# Altium schematic symbol library BoardA.SchLib: 11 symbols
Pins are listed as number, name and electrical type; pins without a type are passive.

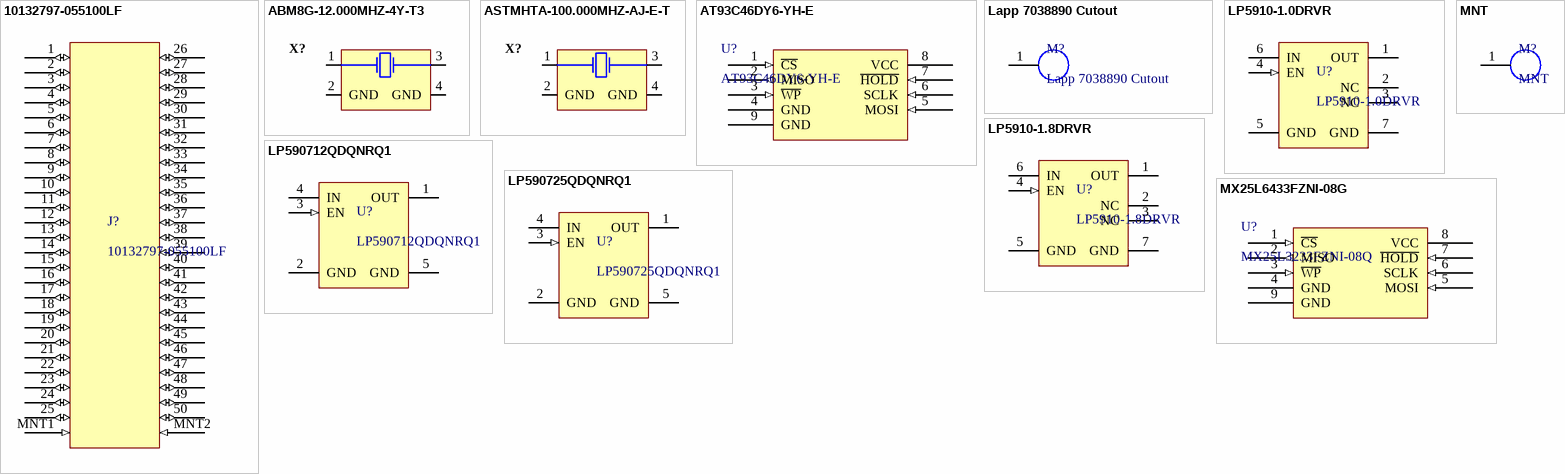
[diagram p0: symbols 10132797-055100LF to MX25L6433FZNI-08G]

## 10132797-055100LF
designator J?
footprint 10132797-055100LF
pins: 1 (io), 2 (io), 3 (io), 4 (io), 5 (io), 6 (io), 7 (io), 8 (io), 9 (io), 10 (io), 11 (io), 12 (io), 13 (io), 14 (io), 15 (io), 16 (io), 17 (io), 18 (io), 19 (io), 20 (io), 21 (io), 22 (io), 23 (io), 24 (io), 25 (io), 26 (io), 27 (io), 28 (io), 29 (io), 30 (io), 31 (io), 32 (io), 33 (io), 34 (io), 35 (io), 36 (io), 37 (io), 38 (io), 39 (io), 40 (io), 41 (io), 42 (io), 43 (io), 44 (io), 45 (io), 46 (io), 47 (io), 48 (io), 49 (io), 50 (io), MNT1 (in), MNT2 (in)

## ABM8G-12.000MHZ-4Y-T3
designator X?  (value not drawn)
ABRACON - ABM8G-12.000MHZ-4Y-T3 - CRYSTAL, 12MHZ, 10PF, 3.2 X 2.5MM; ESR (Equivalent Series Resistance): 120R; Frequency Tolerance: 30ppm; Supplier 1: Digi-Key; RoHS: Yes; Stock 1: 11481; Pricing 1: 1=0.67000, 10=0.59600, 50=0.55720, 100=0.49250, 500=0.46656, 1000=0.38880 (USD); Mount: Surface Mount; Case/Package: CSMD; Number of Pins: 4; Min Operating Temperature: -10°C; Max Operating Temperature: 60°C; Frequency: 12MHz; Load Capacitance: 10pF; Packaging: Tape and Reel; Frequency Stability: 30ppm; Series: ABM8G; Series Resistance: 120R; Operating Frequency: 12 MHz; Length: 3.2mm; Width: 0.098inch; Height: 0.039inch; Depth: 2.5mm; REACH SVHC: No SVHC; Lead Free: Lead Free; ComponentLink1URL: https://datasheet.ciiva.com/15116/getdatasheetpartid-719872-15116768.pdf?src-supplier=Verical; ComponentLink1Description: https://datasheet.ciiva.com/15116/getdatasheetpartid-719872-15116768.pdf?src-supplier=Verical; ComponentLink2URL: https://datasheet.ciiva.com/857/abm8g-857959.pdf?src-supplier=Digi-Key; ComponentLink2Description: https://datasheet.ciiva.com/857/abm8g-857959.pdf?src-supplier=Digi-Key; ComponentLink3URL: https://datasheet.ciiva.com/857/abm8g-857960.pdf?src-supplier=Digi-Key; ComponentLink3Description: https://datasheet.ciiva.com/857/abm8g-857960.pdf?src-supplier=Digi-Key; ComponentLink4URL: https://datasheet.ciiva.com/857/abm8g-857961.pdf?src-supplier=Digi-Key; ComponentLink4Description: https://datasheet.ciiva.com/857/abm8g-857961.pdf?src-supplier=Digi-Key; ComponentLink5URL: https://datasheet.ciiva.com/16216/abm8g-16216655.pdf?src-supplier=Future+Electronics; ComponentLink5Description: https://datasheet.ciiva.com/16216/abm8g-16216655.pdf?src-supplier=Future+Electronics; Manufacturer Part Number: ABM8G-12.000MHZ-4Y-T3; Manufacturer: Abracon; Supplier Part Number 1: 535-10901-1-ND; Category: Crystals
footprint ABM8G-12.000MHZ-4Y-T3
pins: 1, 2 GND (power), 3, 4 GND (power)

## ASTMHTA-100.000MHZ-AJ-E-T
designator X?, comment ASDMB-100.000MHZ-XY-T  (value not drawn)
MEMS OSC XO 100.0000MHZ LVCMOS /; Manufacturer Part Number: ASTMHTA-100.000MHZ-AJ-E-T; Manufacturer: Abracon; Frequency: 100MHz; Load Capacitance: 15pF; Operating Supply Voltage: 3.6V; Frequency Stability: 10ppm; Max Supply Current: 16mA; RoHS: Yes; Stock 1: 2824; Pricing 1: 1=3.08000, 10=2.93800, 50=2.79080, 100=2.49700, 500=2.35008 (USD); Mount: Surface Mount; Case/Package: SMD/SMT; Number of Pins: 4; Min Operating Temperature: -40°C; Max Operating Temperature: 105°C; Packaging: Tape and Reel; Termination: SMD/SMT; Series: Pure Silicon™ ASDMB; Length: 0.098inch; Width: 0.079inch; Height: 0.035inch; Radiation Hardening: No; RoHS Compliant: Yes; Lead Free: Lead Free; ComponentLink1URL: https://datasheet.ciiva.com/1389/1750124-1389392.pdf?src-supplier=Newark; ComponentLink1Description: https://datasheet.ciiva.com/1389/1750124-1389392.pdf?src-supplier=Newark; ComponentLink2URL: https://datasheet.ciiva.com/866/asdmb-866812.pdf?src-supplier=Digi-Key; ComponentLink2Description: https://datasheet.ciiva.com/866/asdmb-866812.pdf?src-supplier=Digi-Key; ComponentLink3URL: https://datasheet.ciiva.com/866/asdmb-866813.pdf?src-supplier=Digi-Key; ComponentLink3Description: https://datasheet.ciiva.com/866/asdmb-866813.pdf?src-supplier=Digi-Key; ComponentLink4URL: https://datasheet.ciiva.com/866/asdmb-866814.pdf?src-supplier=Digi-Key; ComponentLink4Description: https://datasheet.ciiva.com/866/asdmb-866814.pdf?src-supplier=Digi-Key; ComponentLink5URL: https://datasheet.ciiva.com/3177/asdmb-3177639.pdf?src-supplier=Avnet; ComponentLink5Description: https://datasheet.ciiva.com/3177/asdmb-3177639.pdf?src-supplier=Avnet; Category: Oscillators; Supplier 1: Digi-Key; Supplier Part Number 1: 535-15297-1-ND
footprint ASTMHTA-100.000MHZ-AJ-E-T
pins: 1, 2 GND (power), 3, 4 GND (power)

## AT93C46DY6-YH-E
designator U?
EEPROM Memory IC 1Kb (128 x 8, 64 x 16) SPI 8-UDFN (2x3); Manufacturer: Microchip; Manufacturer Part Number: AT25040B-MAHL-E; RoHS: Yes; Supplier 1: Digi-Key; Supplier Part Number 1: AT93C46DY6-YH-ECT-ND
footprint AT93C46DY6-YH-E
pins: 1 ~{CS} (in), 2 MISO (out), 3 ~{WP} (in), 4 GND (power), 5 MOSI (in), 6 SCLK (in), 7 ~{HOLD} (in), 8 VCC (power), 9 GND (power)

## Lapp 7038890 Cutout
designator M?
footprint Lapp 7038890 Cutout
pins: 1

## LP5910-1.0DRVR
designator U?
LDO Regulator Pos 1V 0.3A 6-Pin WSON EP T/R; Manufacturer: Texas Instruments; Output Current: 300mA; Number of Regulators: 1; Quiescent Current: 12uA; Dropout Voltage: 120mV; Supplier 1: Mouser; RoHS: Yes; Stock 1: 2189; Pricing 1: 1=0.63000, 10=0.53700, 50=0.53700, 100=0.37200, 1000=0.24400, 10000=0.19500 (USD); Mount: Surface Mount; Min Operating Temperature: -40°C; Max Operating Temperature: 125°C; Packaging: Tape and Reel; Output Voltage: 1V; Lead Free: Lead Free; RoHS Compliant: Yes; ComponentLink1URL: http://www.ti.com/lit/ds/symlink/lp5910.pdf?src-supplier=Digi-Key; ComponentLink1Description: http://www.ti.com/lit/ds/symlink/lp5910.pdf?src-supplier=Digi-Key; ComponentLink2URL: http://www.ti.com/general/docs/suppproductinfo.tsp?distId=10&amp;gotoUrl=http%3A%2F%2Fwww.ti.com%2Flit%2Fgpn%2Flp5910&src-supplier=Digi-Key; ComponentLink2Description: http://www.ti.com/general/docs/suppproductinfo.tsp?distId=10&amp;gotoUrl=http%3A%2F%2Fwww.ti.com%2Flit%2Fgpn%2Flp5910&src-supplier=Digi-Key; Manufacturer Part Number: LP5910-1.0DRVR; Supplier Part Number 1: 595-LP5910-1.0DRVR; Category: Voltage Regulators - Linear
footprint LP5910
pins: 1 OUT (power), 2 NC, 3 NC, 4 EN (in), 5 GND (power), 6 IN (power), 7 GND (power)

## LP5910-1.8DRVR
designator U?
IC REG LINEAR 1.8V 300MA 6SON; Manufacturer: Texas Instruments; Dropout Voltage: 145mV; Number of Regulators: 1; Quiescent Current: 12uA; Supplier 1: Digi-Key; RoHS: Yes; Stock 1: 556; Pricing 1: 1=0.63000, 10=0.53700, 25=0.50080, 100=0.40070, 250=0.37208, 500=0.31482, 1000=0.24327 (USD); Mount: Surface Mount; Min Operating Temperature: -40°C; Max Operating Temperature: 125°C; Packaging: Tape and Reel; Output Voltage: 1.8V; Output Current: 300mA; Lead Free: Lead Free; RoHS Compliant: Yes; ComponentLink1URL: http://www.ti.com/general/docs/suppproductinfo.tsp?distId=10&amp;gotoUrl=http%3A%2F%2Fwww.ti.com%2Flit%2Fgpn%2Flp5910&src-supplier=Digi-Key; ComponentLink1Description: http://www.ti.com/general/docs/suppproductinfo.tsp?distId=10&amp;gotoUrl=http%3A%2F%2Fwww.ti.com%2Flit%2Fgpn%2Flp5910&src-supplier=Digi-Key; ComponentLink2URL: http://www.ti.com/lit/ds/symlink/lp5910.pdf?src-supplier=Digi-Key; ComponentLink2Description: http://www.ti.com/lit/ds/symlink/lp5910.pdf?src-supplier=Digi-Key; Manufacturer Part Number: LP5910-1.8DRVR; Supplier Part Number 1: 296-47212-1-ND; Category: Voltage Regulators - Linear
footprint LP5910
pins: 1 OUT (power), 2 NC, 3 NC, 4 EN (in), 5 GND (power), 6 IN (power), 7 GND (power)

## LP590712QDQNRQ1
designator U?
Manufacturer: Texas Instruments; Supplier 1: Digi-Key; RoHS: Yes; Stock 1: 2825; Pricing 1: 1=0.64000, 10=0.56000, 25=0.52560, 100=0.42910, 250=0.39856, 500=0.33920, 1000=0.28000 (USD); Supplier Part Number 1: 296-LP590712QDQNRQ1CT-ND; Manufacturer Part Number: LP590712QDQNRQ1
footprint LP5907
pins: 1 OUT (power), 2 GND (power), 3 EN (in), 4 IN (power), 5 GND (power)

## LP590725QDQNRQ1
designator U?
LDO Regulator Pos 1.2V to 4.5V 0.25A 4-Pin X2SON EP T/R; Manufacturer: Texas Instruments; Supplier 1: Digi-Key; RoHS: Yes; Stock 1: 2810; Pricing 1: 1=0.64000, 10=0.56000, 25=0.52560, 100=0.42910, 250=0.39856, 500=0.33920, 1000=0.28000 (USD); Manufacturer Part Number: LP590725QDQNRQ1; Supplier Part Number 1: 296-LP590725QDQNRQ1CT-ND; Category: Integrated Circuits (ICs)
footprint LP5907
pins: 1 OUT (power), 2 GND (power), 3 EN (in), 4 IN (power), 5 GND (power)

## MNT
designator M?
footprint MNT
pins: 1

## MX25L6433FZNI-08G
designator U?, comment MX25L3233FZNI-08Q
IC Flash Serial Nor 64MBIT 8WSON; Manufacturer: Macronix; Manufacturer Part Number: MX25L6433FZNI-08G; RoHS: Yes; Stock 1: 2606; Pricing 1: 1=0.75000, 10=0.68700, 25=0.67880, 40=0.67450, 80=0.60313, 230=0.59804, 570=0.58923, 1140=0.56814, 5130=0.51748 (USD); RoHS Compliant: No; Category: Memory; Supplier 1: Digi-Key; Supplier Part Number 1: MX25L6433FZNI-08G-ND
footprint MX25L6433FZNI-08G
pins: 1 ~{CS} (in), 2 MISO (out), 3 ~{WP} (in), 4 GND (power), 5 MOSI (in), 6 SCLK (in), 7 ~{HOLD} (in), 8 VCC (power), 9 GND (power)